# Altium integrated library NSC Interface.IntLib: 1288 symbols (part 36 of 45)
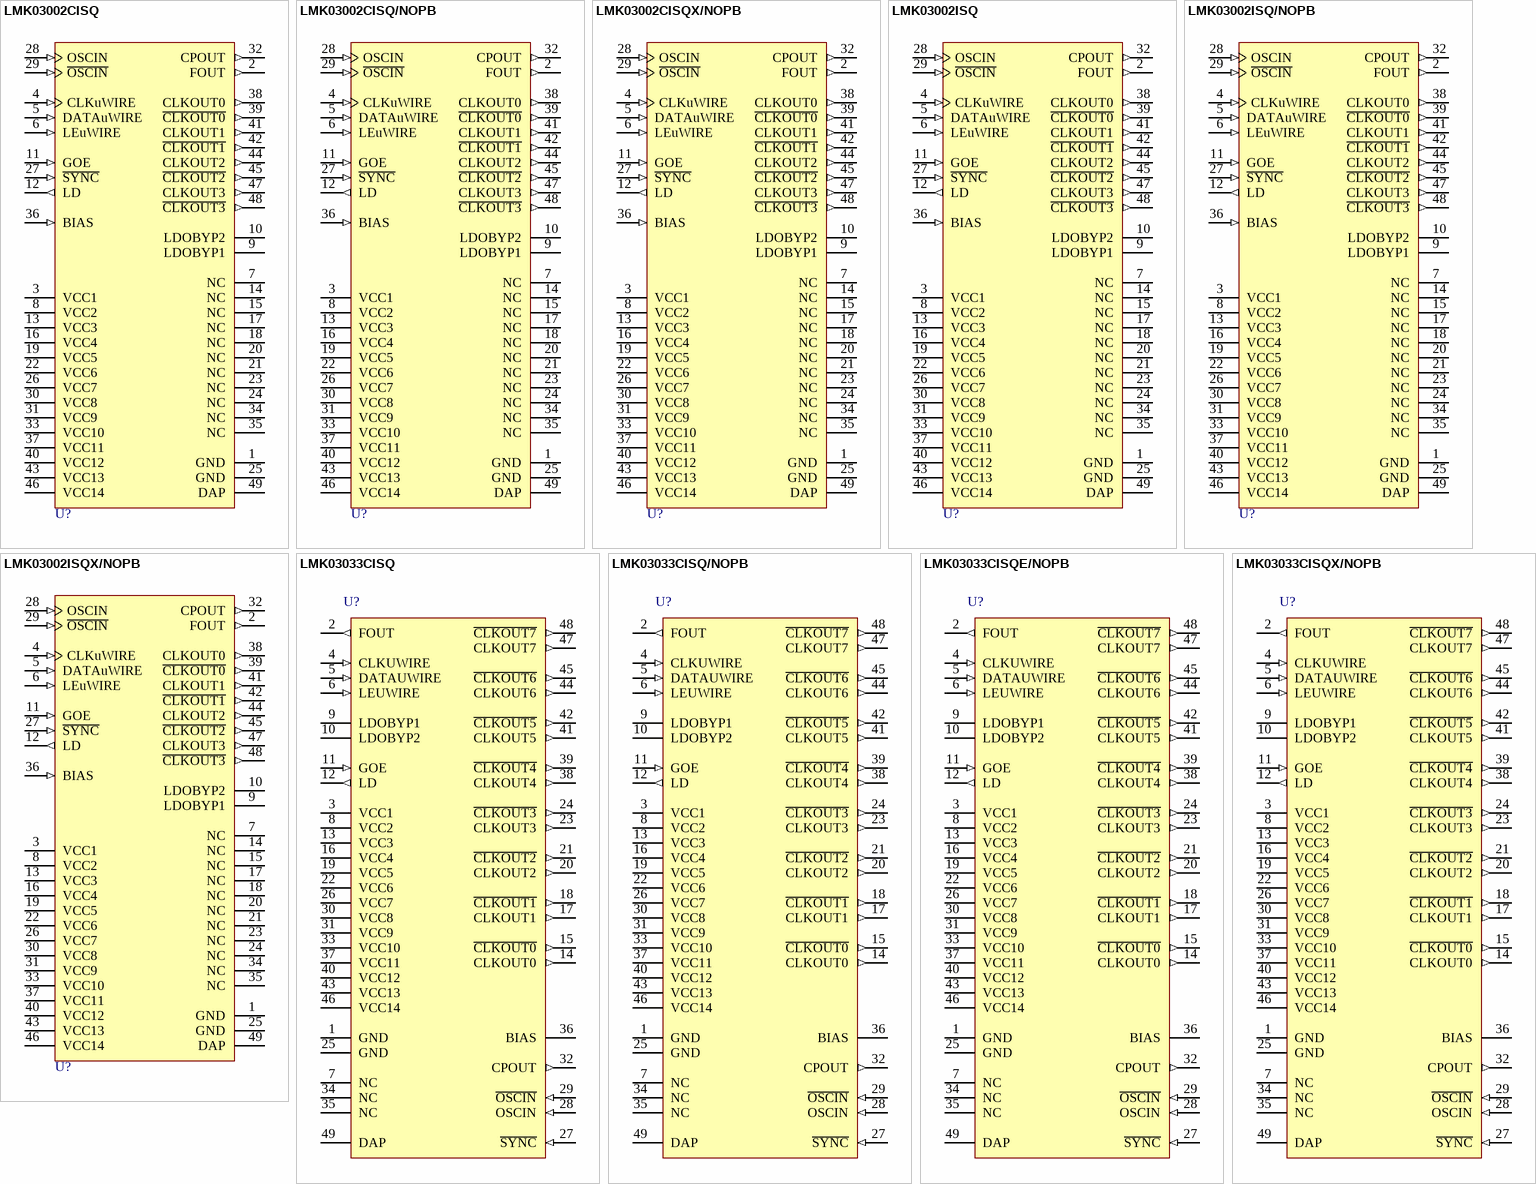
[diagram p147: symbols LMK03002CISQ to LMK03033CISQX/NOPB]

## LMK03002CISQ/NOPB
designator U?
Precision Clock Conditioner with Integrated VCO, 48-pin LLP, Pb-Free; PartNumber: LMK03002CISQ/NOPB; Manufacturer: National Semiconductor; PackageTopMarking: NS*UZXYTTE#*K03002CI; PowerWise: Y; CompType: Interface IC; Published: 1-Mar-2010; DatasheetVersion: Jul-2009; PackageVersion: revB, May-2009; PackageReference: SQA48A; Publisher: Altium Limited; PackageDescription: LLP, Plastic, Quad, 7 x 7 x 0.8mm Body, 48 Lead, 0.5mm Pitch, No Pullback; Supplier 1: Digi-Key; Supplier Part Number 1: LMK03002CISQTR-ND; Supplier 2: Digi-Key; Supplier Part Number 2: LMK03002CISQCT-ND; Supplier 3: Digi-Key; Supplier Part Number 3: LMK03002CISQDKR-ND; RoHS: Y; PinCount: 48; Code_JEDEC: MO-220-WKKD-2; ComponentLink1Description: LMK03002C Datasheet; ComponentLink1URL: http://www.national.com/ds/LM/LMK03002.pdf; ComponentLink2Description: LMK03002C Web Page; ComponentLink2URL: http://www.national.com/pf/LM/LMK03002C.html; ComponentLink3Description: SQA48A Package Page; ComponentLink3URL: http://www.national.com/packaging/folders/sqa48a.html
footprint SQA48A (QFN, 48-Leads, Body 7x7mm, Pitch 0.5mm, NSC Recommended)
pins: 1 GND (power), 2 FOUT (out), 3 VCC1 (power), 4 CLKuWIRE (in), 5 DATAuWIRE (in), 6 LEuWIRE (in), 7 NC, 8 VCC2 (power), 9 LDOBYP1, 10 LDOBYP2, 11 GOE (in), 12 LD (out), 13 VCC3 (power), 14 NC, 15 NC, 16 VCC4 (power), 17 NC, 18 NC, 19 VCC5 (power), 20 NC, 21 NC, 22 VCC6 (power), 23 NC, 24 NC, 25 GND (power), 26 VCC7 (power), 27 ~{SYNC} (in), 28 OSCIN (in), 29 ~{OSCIN} (in), 30 VCC8 (power), 31 VCC9 (power), 32 CPOUT (out), 33 VCC10 (power), 34 NC, 35 NC, 36 BIAS (in), 37 VCC11 (power), 38 CLKOUT0 (out), 39 ~{CLKOUT0} (out), 40 VCC12 (power), 41 CLKOUT1 (out), 42 ~{CLKOUT1} (out), 43 VCC13 (power), 44 CLKOUT2 (out), 45 ~{CLKOUT2} (out), 46 VCC14 (power), 47 CLKOUT3 (out), 48 ~{CLKOUT3} (out), 49 DAP (power)

## LMK03002CISQX/NOPB
designator U?
Precision Clock Conditioner with Integrated VCO, 48-pin LLP, Pb-Free; PartNumber: LMK03002CISQX/NOPB; Manufacturer: National Semiconductor; PackageTopMarking: NS*UZXYTTE#*K03002CI; PowerWise: Y; CompType: Interface IC; Published: 1-Mar-2010; DatasheetVersion: Jul-2009; PackageVersion: revB, May-2009; PackageReference: SQA48A; Publisher: Altium Limited; PackageDescription: LLP, Plastic, Quad, 7 x 7 x 0.8mm Body, 48 Lead, 0.5mm Pitch, No Pullback; Supplier 1: Digi-Key; Supplier Part Number 1: LMK03002CISQX-ND; RoHS: Y; PinCount: 48; Code_JEDEC: MO-220-WKKD-2; ComponentLink1Description: LMK03002C Datasheet; ComponentLink1URL: http://www.national.com/ds/LM/LMK03002.pdf; ComponentLink2Description: LMK03002C Web Page; ComponentLink2URL: http://www.national.com/pf/LM/LMK03002C.html; ComponentLink3Description: SQA48A Package Page; ComponentLink3URL: http://www.national.com/packaging/folders/sqa48a.html
footprint SQA48A (QFN, 48-Leads, Body 7x7mm, Pitch 0.5mm, NSC Recommended)
pins: 1 GND (power), 2 FOUT (out), 3 VCC1 (power), 4 CLKuWIRE (in), 5 DATAuWIRE (in), 6 LEuWIRE (in), 7 NC, 8 VCC2 (power), 9 LDOBYP1, 10 LDOBYP2, 11 GOE (in), 12 LD (out), 13 VCC3 (power), 14 NC, 15 NC, 16 VCC4 (power), 17 NC, 18 NC, 19 VCC5 (power), 20 NC, 21 NC, 22 VCC6 (power), 23 NC, 24 NC, 25 GND (power), 26 VCC7 (power), 27 ~{SYNC} (in), 28 OSCIN (in), 29 ~{OSCIN} (in), 30 VCC8 (power), 31 VCC9 (power), 32 CPOUT (out), 33 VCC10 (power), 34 NC, 35 NC, 36 BIAS (in), 37 VCC11 (power), 38 CLKOUT0 (out), 39 ~{CLKOUT0} (out), 40 VCC12 (power), 41 CLKOUT1 (out), 42 ~{CLKOUT1} (out), 43 VCC13 (power), 44 CLKOUT2 (out), 45 ~{CLKOUT2} (out), 46 VCC14 (power), 47 CLKOUT3 (out), 48 ~{CLKOUT3} (out), 49 DAP (power)

## LMK03002ISQ
designator U?
Precision Clock Conditioner with Integrated VCO, 48-pin LLP; PartNumber: LMK03002ISQ; Manufacturer: National Semiconductor; PackageTopMarking: NS*UZXYTT*K03002 I; PowerWise: Y; CompType: Interface IC; Published: 4-Dec-2008; DatasheetVersion: Jul-2009; PackageVersion: revB, May-2009; PackageReference: SQA48A; Publisher: Altium Limited; PackageDescription: LLP, Plastic, Quad, 7 x 7 x 0.8mm Body, 48 Lead, 0.5mm Pitch, No Pullback; RoHS: Y; PinCount: 48; Code_JEDEC: MO-220-WKKD-2; ComponentLink1Description: LMK03002 Datasheet; ComponentLink1URL: http://www.national.com/ds/LM/LMK03002.pdf; ComponentLink2Description: LMK03002 Web Page; ComponentLink2URL: http://www.national.com/pf/LM/LMK03002.html; ComponentLink3Description: SQA48A Package Page; ComponentLink3URL: http://www.national.com/packaging/folders/sqa48a.html
footprint SQA48A (QFN, 48-Leads, Body 7x7mm, Pitch 0.5mm, NSC Recommended)
pins: 1 GND (power), 2 FOUT (out), 3 VCC1 (power), 4 CLKuWIRE (in), 5 DATAuWIRE (in), 6 LEuWIRE (in), 7 NC, 8 VCC2 (power), 9 LDOBYP1, 10 LDOBYP2, 11 GOE (in), 12 LD (out), 13 VCC3 (power), 14 NC, 15 NC, 16 VCC4 (power), 17 NC, 18 NC, 19 VCC5 (power), 20 NC, 21 NC, 22 VCC6 (power), 23 NC, 24 NC, 25 GND (power), 26 VCC7 (power), 27 ~{SYNC} (in), 28 OSCIN (in), 29 ~{OSCIN} (in), 30 VCC8 (power), 31 VCC9 (power), 32 CPOUT (out), 33 VCC10 (power), 34 NC, 35 NC, 36 BIAS (in), 37 VCC11 (power), 38 CLKOUT0 (out), 39 ~{CLKOUT0} (out), 40 VCC12 (power), 41 CLKOUT1 (out), 42 ~{CLKOUT1} (out), 43 VCC13 (power), 44 CLKOUT2 (out), 45 ~{CLKOUT2} (out), 46 VCC14 (power), 47 CLKOUT3 (out), 48 ~{CLKOUT3} (out), 49 DAP (power)

## LMK03002ISQ/NOPB
designator U?
Precision Clock Conditioner with Integrated VCO, 48-pin LLP, Pb-Free; PartNumber: LMK03002ISQ/NOPB; Manufacturer: National Semiconductor; PackageTopMarking: NS*UZXYTTE#*K03002 I; PowerWise: Y; CompType: Interface IC; Published: 1-Mar-2010; DatasheetVersion: Jul-2009; PackageVersion: revB, May-2009; PackageReference: SQA48A; Publisher: Altium Limited; PackageDescription: LLP, Plastic, Quad, 7 x 7 x 0.8mm Body, 48 Lead, 0.5mm Pitch, No Pullback; Supplier 1: Digi-Key; Supplier Part Number 1: LMK03002ISQTR-ND; Supplier 2: Digi-Key; Supplier Part Number 2: LMK03002ISQCT-ND; Supplier 3: Digi-Key; Supplier Part Number 3: LMK03002ISQDKR-ND; RoHS: Y; PinCount: 48; Code_JEDEC: MO-220-WKKD-2; ComponentLink1Description: LMK03002 Datasheet; ComponentLink1URL: http://www.national.com/ds/LM/LMK03002.pdf; ComponentLink2Description: LMK03002 Web Page; ComponentLink2URL: http://www.national.com/pf/LM/LMK03002.html; ComponentLink3Description: SQA48A Package Page; ComponentLink3URL: http://www.national.com/packaging/folders/sqa48a.html
footprint SQA48A (QFN, 48-Leads, Body 7x7mm, Pitch 0.5mm, NSC Recommended)
pins: 1 GND (power), 2 FOUT (out), 3 VCC1 (power), 4 CLKuWIRE (in), 5 DATAuWIRE (in), 6 LEuWIRE (in), 7 NC, 8 VCC2 (power), 9 LDOBYP1, 10 LDOBYP2, 11 GOE (in), 12 LD (out), 13 VCC3 (power), 14 NC, 15 NC, 16 VCC4 (power), 17 NC, 18 NC, 19 VCC5 (power), 20 NC, 21 NC, 22 VCC6 (power), 23 NC, 24 NC, 25 GND (power), 26 VCC7 (power), 27 ~{SYNC} (in), 28 OSCIN (in), 29 ~{OSCIN} (in), 30 VCC8 (power), 31 VCC9 (power), 32 CPOUT (out), 33 VCC10 (power), 34 NC, 35 NC, 36 BIAS (in), 37 VCC11 (power), 38 CLKOUT0 (out), 39 ~{CLKOUT0} (out), 40 VCC12 (power), 41 CLKOUT1 (out), 42 ~{CLKOUT1} (out), 43 VCC13 (power), 44 CLKOUT2 (out), 45 ~{CLKOUT2} (out), 46 VCC14 (power), 47 CLKOUT3 (out), 48 ~{CLKOUT3} (out), 49 DAP (power)

## LMK03002ISQX/NOPB
designator U?
Precision Clock Conditioner with Integrated VCO, 48-pin LLP, Pb-Free; PartNumber: LMK03002ISQX/NOPB; Manufacturer: National Semiconductor; PackageTopMarking: NS*UZXYTTE#*K03002 I; PowerWise: Y; CompType: Interface IC; Published: 1-Mar-2010; DatasheetVersion: Jul-2009; PackageVersion: revB, May-2009; PackageReference: SQA48A; Publisher: Altium Limited; PackageDescription: LLP, Plastic, Quad, 7 x 7 x 0.8mm Body, 48 Lead, 0.5mm Pitch, No Pullback; Supplier 1: Digi-Key; Supplier Part Number 1: LMK03002ISQX-ND; RoHS: Y; PinCount: 48; Code_JEDEC: MO-220-WKKD-2; ComponentLink1Description: LMK03002 Datasheet; ComponentLink1URL: http://www.national.com/ds/LM/LMK03002.pdf; ComponentLink2Description: LMK03002 Web Page; ComponentLink2URL: http://www.national.com/pf/LM/LMK03002.html; ComponentLink3Description: SQA48A Package Page; ComponentLink3URL: http://www.national.com/packaging/folders/sqa48a.html
footprint SQA48A (QFN, 48-Leads, Body 7x7mm, Pitch 0.5mm, NSC Recommended)
pins: 1 GND (power), 2 FOUT (out), 3 VCC1 (power), 4 CLKuWIRE (in), 5 DATAuWIRE (in), 6 LEuWIRE (in), 7 NC, 8 VCC2 (power), 9 LDOBYP1, 10 LDOBYP2, 11 GOE (in), 12 LD (out), 13 VCC3 (power), 14 NC, 15 NC, 16 VCC4 (power), 17 NC, 18 NC, 19 VCC5 (power), 20 NC, 21 NC, 22 VCC6 (power), 23 NC, 24 NC, 25 GND (power), 26 VCC7 (power), 27 ~{SYNC} (in), 28 OSCIN (in), 29 ~{OSCIN} (in), 30 VCC8 (power), 31 VCC9 (power), 32 CPOUT (out), 33 VCC10 (power), 34 NC, 35 NC, 36 BIAS (in), 37 VCC11 (power), 38 CLKOUT0 (out), 39 ~{CLKOUT0} (out), 40 VCC12 (power), 41 CLKOUT1 (out), 42 ~{CLKOUT1} (out), 43 VCC13 (power), 44 CLKOUT2 (out), 45 ~{CLKOUT2} (out), 46 VCC14 (power), 47 CLKOUT3 (out), 48 ~{CLKOUT3} (out), 49 DAP (power)

## LMK03033CISQ
designator U?
Precision Clock Conditioner with Integrated VCO, 48-pin LLP; PartNumber: LMK03033CISQ; Manufacturer: National Semiconductor; PackageTopMarking: NS*UZXYTT*K03033CI; PowerWise: Y; CompType: Interface IC; Published: 4-Dec-2008; LatestRevisionDate: 1-Mar-2010; LatestRevisionNote: Updated to datasheet version Jul-2009; DatasheetVersion: Jul-2009; PackageVersion: revB, May-2009; PackageReference: SQA48A; Publisher: Altium Limited; PackageDescription: LLP, Plastic, Quad, 7 x 7 x 0.8mm Body, 48 Lead, 0.5mm Pitch, No Pullback; Supplier 1: Farnell; Supplier Part Number 1: 1667424; RoHS: Y; PinCount: 48; Code_JEDEC: MO-220-WKKD-2; ComponentLink1Description: LMK03033C Datasheet; ComponentLink1URL: http://www.national.com/ds/LM/LMK03000.pdf; ComponentLink2Description: LMK03033C Web Page; ComponentLink2URL: http://www.national.com/pf/LM/LMK03033C.html; ComponentLink3Description: SQA48A Package Page; ComponentLink3URL: http://www.national.com/packaging/folders/sqa48a.html
footprint SQA48A (QFN, 48-Leads, Body 7x7mm, Pitch 0.5mm, NSC Recommended)
pins: 1 GND (power), 2 FOUT (out), 3 VCC1 (power), 4 CLKUWIRE (in), 5 DATAUWIRE (in), 6 LEUWIRE (in), 7 NC, 8 VCC2 (power), 9 LDOBYP1, 10 LDOBYP2, 11 GOE (in), 12 LD (out), 13 VCC3 (power), 14 CLKOUT0 (out), 15 ~{CLKOUT0} (out), 16 VCC4 (power), 17 CLKOUT1 (out), 18 ~{CLKOUT1} (out), 19 VCC5 (power), 20 CLKOUT2 (out), 21 ~{CLKOUT2} (out), 22 VCC6 (power), 23 CLKOUT3 (out), 24 ~{CLKOUT3} (out), 25 GND (power), 26 VCC7 (power), 27 ~{SYNC} (in), 28 OSCIN (in), 29 ~{OSCIN} (in), 30 VCC8 (power), 31 VCC9 (power), 32 CPOUT (out), 33 VCC10 (power), 34 NC, 35 NC, 36 BIAS, 37 VCC11 (power), 38 CLKOUT4 (out), 39 ~{CLKOUT4} (out), 40 VCC12 (power), 41 CLKOUT5 (out), 42 ~{CLKOUT5} (out), 43 VCC13 (power), 44 CLKOUT6 (out), 45 ~{CLKOUT6} (out), 46 VCC14 (power), 47 CLKOUT7 (out), 48 ~{CLKOUT7} (out), 49 DAP (power)

## LMK03033CISQ/NOPB
designator U?
Precision Clock Conditioner with Integrated VCO, 48-pin LLP, Pb-Free; PartNumber: LMK03033CISQ/NOPB; Manufacturer: National Semiconductor; PackageTopMarking: NS*UZXYTTE#*K03033CI; PowerWise: Y; CompType: Interface IC; Published: 1-Mar-2010; LatestRevisionDate: 1-Mar-2010; LatestRevisionNote: Updated to datasheet version Jul-2009; DatasheetVersion: Jul-2009; PackageVersion: revB, May-2009; PackageReference: SQA48A; Publisher: Altium Limited; PackageDescription: LLP, Plastic, Quad, 7 x 7 x 0.8mm Body, 48 Lead, 0.5mm Pitch, No Pullback; Supplier 1: Digi-Key; Supplier Part Number 1: LMK03033CISQ-ND; RoHS: Y; PinCount: 48; Code_JEDEC: MO-220-WKKD-2; ComponentLink1Description: LMK03033 Datasheet; ComponentLink1URL: http://www.national.com/ds/LM/LMK03033.pdf; ComponentLink2Description: LMK03033 Web Page; ComponentLink2URL: http://www.national.com/pf/LM/LMK03033.html; ComponentLink3Description: SQA48A Package Page; ComponentLink3URL: http://www.national.com/packaging/folders/sqa48a.html
footprint SQA48A (QFN, 48-Leads, Body 7x7mm, Pitch 0.5mm, NSC Recommended)
pins: 1 GND (power), 2 FOUT (out), 3 VCC1 (power), 4 CLKUWIRE (in), 5 DATAUWIRE (in), 6 LEUWIRE (in), 7 NC, 8 VCC2 (power), 9 LDOBYP1, 10 LDOBYP2, 11 GOE (in), 12 LD (out), 13 VCC3 (power), 14 CLKOUT0 (out), 15 ~{CLKOUT0} (out), 16 VCC4 (power), 17 CLKOUT1 (out), 18 ~{CLKOUT1} (out), 19 VCC5 (power), 20 CLKOUT2 (out), 21 ~{CLKOUT2} (out), 22 VCC6 (power), 23 CLKOUT3 (out), 24 ~{CLKOUT3} (out), 25 GND (power), 26 VCC7 (power), 27 ~{SYNC} (in), 28 OSCIN (in), 29 ~{OSCIN} (in), 30 VCC8 (power), 31 VCC9 (power), 32 CPOUT (out), 33 VCC10 (power), 34 NC, 35 NC, 36 BIAS, 37 VCC11 (power), 38 CLKOUT4 (out), 39 ~{CLKOUT4} (out), 40 VCC12 (power), 41 CLKOUT5 (out), 42 ~{CLKOUT5} (out), 43 VCC13 (power), 44 CLKOUT6 (out), 45 ~{CLKOUT6} (out), 46 VCC14 (power), 47 CLKOUT7 (out), 48 ~{CLKOUT7} (out), 49 DAP (power)

## LMK03033CISQE/NOPB
designator U?
Precision Clock Conditioner with Integrated VCO, 48-pin LLP, Pb-Free; PartNumber: LMK03033CISQE/NOPB; Manufacturer: National Semiconductor; PackageTopMarking: NS*UZXYTTE#*K03033CI; PowerWise: Y; CompType: Interface IC; Published: 1-Mar-2010; LatestRevisionDate: 1-Mar-2010; LatestRevisionNote: Updated to datasheet version Jul-2009; DatasheetVersion: Jul-2009; PackageVersion: revB, May-2009; PackageReference: SQA48A; Publisher: Altium Limited; PackageDescription: LLP, Plastic, Quad, 7 x 7 x 0.8mm Body, 48 Lead, 0.5mm Pitch, No Pullback; Supplier 1: Digi-Key; Supplier Part Number 1: LMK03033CISQETR-ND; Supplier 2: Digi-Key; Supplier Part Number 2: LMK03033CISQECT-ND; Supplier 3: Digi-Key; Supplier Part Number 3: LMK03033CISQEDKR-ND; Supplier 4: Farnell; Supplier Part Number 4: 1685413; RoHS: Y; PinCount: 48; Code_JEDEC: MO-220-WKKD-2; ComponentLink1Description: LMK03033 Datasheet; ComponentLink1URL: http://www.national.com/ds/LM/LMK03033.pdf; ComponentLink2Description: LMK03033 Web Page; ComponentLink2URL: http://www.national.com/pf/LM/LMK03033.html; ComponentLink3Description: SQA48A Package Page; ComponentLink3URL: http://www.national.com/packaging/folders/sqa48a.html
footprint SQA48A (QFN, 48-Leads, Body 7x7mm, Pitch 0.5mm, NSC Recommended)
pins: 1 GND (power), 2 FOUT (out), 3 VCC1 (power), 4 CLKUWIRE (in), 5 DATAUWIRE (in), 6 LEUWIRE (in), 7 NC, 8 VCC2 (power), 9 LDOBYP1, 10 LDOBYP2, 11 GOE (in), 12 LD (out), 13 VCC3 (power), 14 CLKOUT0 (out), 15 ~{CLKOUT0} (out), 16 VCC4 (power), 17 CLKOUT1 (out), 18 ~{CLKOUT1} (out), 19 VCC5 (power), 20 CLKOUT2 (out), 21 ~{CLKOUT2} (out), 22 VCC6 (power), 23 CLKOUT3 (out), 24 ~{CLKOUT3} (out), 25 GND (power), 26 VCC7 (power), 27 ~{SYNC} (in), 28 OSCIN (in), 29 ~{OSCIN} (in), 30 VCC8 (power), 31 VCC9 (power), 32 CPOUT (out), 33 VCC10 (power), 34 NC, 35 NC, 36 BIAS, 37 VCC11 (power), 38 CLKOUT4 (out), 39 ~{CLKOUT4} (out), 40 VCC12 (power), 41 CLKOUT5 (out), 42 ~{CLKOUT5} (out), 43 VCC13 (power), 44 CLKOUT6 (out), 45 ~{CLKOUT6} (out), 46 VCC14 (power), 47 CLKOUT7 (out), 48 ~{CLKOUT7} (out), 49 DAP (power)

## LMK03033CISQX/NOPB
designator U?
Precision Clock Conditioner with Integrated VCO, 48-pin LLP, Pb-Free; PartNumber: LMK03033CISQX/NOPB; Manufacturer: National Semiconductor; PackageTopMarking: NS*UZXYTTE#*K03033CI; PowerWise: Y; CompType: Interface IC; Published: 1-Mar-2010; LatestRevisionDate: 1-Mar-2010; LatestRevisionNote: Updated to datasheet version Jul-2009; DatasheetVersion: Jul-2009; PackageVersion: revB, May-2009; PackageReference: SQA48A; Publisher: Altium Limited; PackageDescription: LLP, Plastic, Quad, 7 x 7 x 0.8mm Body, 48 Lead, 0.5mm Pitch, No Pullback; Supplier 1: Digi-Key; Supplier Part Number 1: LMK03033CISQX-ND; RoHS: Y; PinCount: 48; Code_JEDEC: MO-220-WKKD-2; ComponentLink1Description: LMK03033 Datasheet; ComponentLink1URL: http://www.national.com/ds/LM/LMK03033.pdf; ComponentLink2Description: LMK03033 Web Page; ComponentLink2URL: http://www.national.com/pf/LM/LMK03033.html; ComponentLink3Description: SQA48A Package Page; ComponentLink3URL: http://www.national.com/packaging/folders/sqa48a.html
footprint SQA48A (QFN, 48-Leads, Body 7x7mm, Pitch 0.5mm, NSC Recommended)
pins: 1 GND (power), 2 FOUT (out), 3 VCC1 (power), 4 CLKUWIRE (in), 5 DATAUWIRE (in), 6 LEUWIRE (in), 7 NC, 8 VCC2 (power), 9 LDOBYP1, 10 LDOBYP2, 11 GOE (in), 12 LD (out), 13 VCC3 (power), 14 CLKOUT0 (out), 15 ~{CLKOUT0} (out), 16 VCC4 (power), 17 CLKOUT1 (out), 18 ~{CLKOUT1} (out), 19 VCC5 (power), 20 CLKOUT2 (out), 21 ~{CLKOUT2} (out), 22 VCC6 (power), 23 CLKOUT3 (out), 24 ~{CLKOUT3} (out), 25 GND (power), 26 VCC7 (power), 27 ~{SYNC} (in), 28 OSCIN (in), 29 ~{OSCIN} (in), 30 VCC8 (power), 31 VCC9 (power), 32 CPOUT (out), 33 VCC10 (power), 34 NC, 35 NC, 36 BIAS, 37 VCC11 (power), 38 CLKOUT4 (out), 39 ~{CLKOUT4} (out), 40 VCC12 (power), 41 CLKOUT5 (out), 42 ~{CLKOUT5} (out), 43 VCC13 (power), 44 CLKOUT6 (out), 45 ~{CLKOUT6} (out), 46 VCC14 (power), 47 CLKOUT7 (out), 48 ~{CLKOUT7} (out), 49 DAP (power)

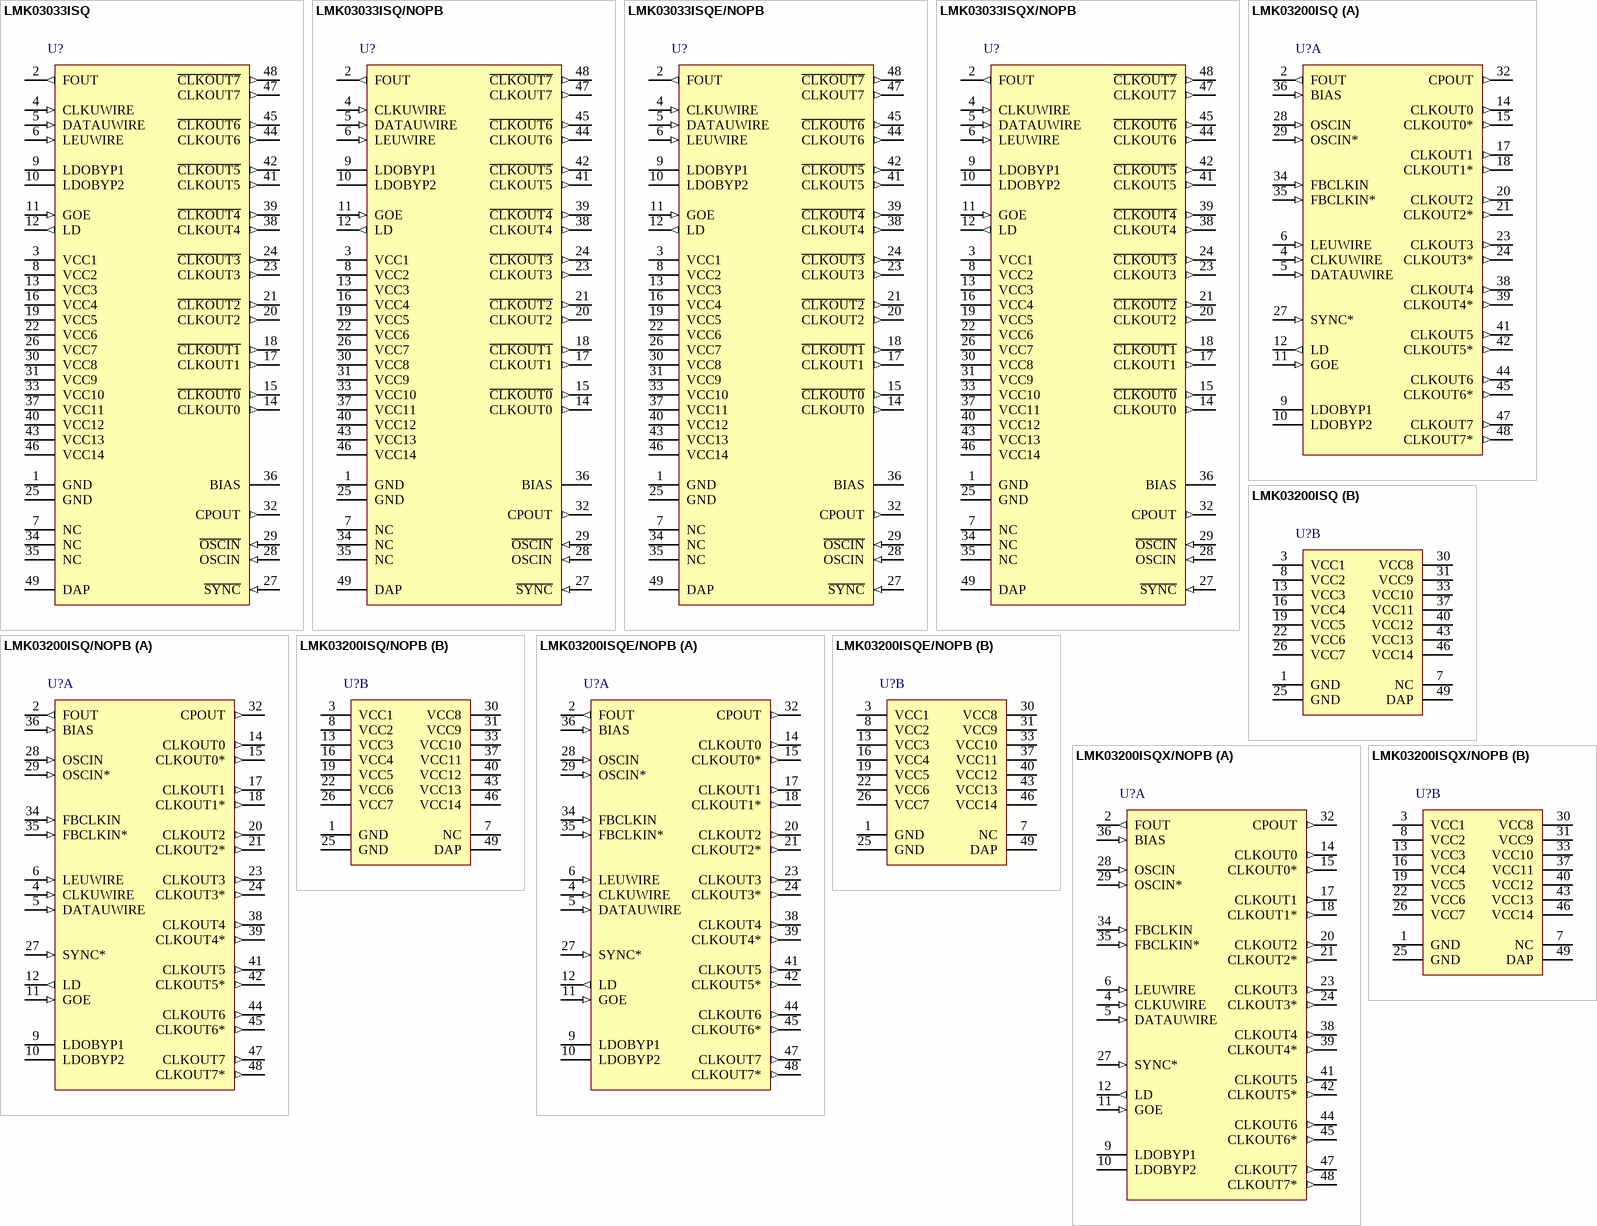
[diagram p89: symbols LMK03033ISQ to LMK03200ISQX/NOPB]

## LMK03033ISQ
designator U?
Precision Clock Conditioner with Integrated VCO, 48-pin LLP; PartNumber: LMK03033ISQ; Manufacturer: National Semiconductor; PackageTopMarking: NS*UZXYTT*K03033 I; PowerWise: Y; CompType: Interface IC; Published: 4-Dec-2008; LatestRevisionDate: 1-Mar-2010; LatestRevisionNote: Updated to datasheet version Jul-2009; DatasheetVersion: Jul-2009; PackageVersion: revB, May-2009; PackageReference: SQA48A; Publisher: Altium Limited; PackageDescription: LLP, Plastic, Quad, 7 x 7 x 0.8mm Body, 48 Lead, 0.5mm Pitch, No Pullback; RoHS: Y; PinCount: 48; Code_JEDEC: MO-220-WKKD-2; ComponentLink1Description: LMK03033 Datasheet; ComponentLink1URL: http://www.national.com/ds/LM/LMK03000.pdf; ComponentLink2Description: LMK03033 Web Page; ComponentLink2URL: http://www.national.com/pf/LM/LMK03033.html; ComponentLink3Description: SQA48A Package Page; ComponentLink3URL: http://www.national.com/packaging/folders/sqa48a.html
footprint SQA48A (QFN, 48-Leads, Body 7x7mm, Pitch 0.5mm, NSC Recommended)
pins: 1 GND (power), 2 FOUT (out), 3 VCC1 (power), 4 CLKUWIRE (in), 5 DATAUWIRE (in), 6 LEUWIRE (in), 7 NC, 8 VCC2 (power), 9 LDOBYP1, 10 LDOBYP2, 11 GOE (in), 12 LD (out), 13 VCC3 (power), 14 CLKOUT0 (out), 15 ~{CLKOUT0} (out), 16 VCC4 (power), 17 CLKOUT1 (out), 18 ~{CLKOUT1} (out), 19 VCC5 (power), 20 CLKOUT2 (out), 21 ~{CLKOUT2} (out), 22 VCC6 (power), 23 CLKOUT3 (out), 24 ~{CLKOUT3} (out), 25 GND (power), 26 VCC7 (power), 27 ~{SYNC} (in), 28 OSCIN (in), 29 ~{OSCIN} (in), 30 VCC8 (power), 31 VCC9 (power), 32 CPOUT (out), 33 VCC10 (power), 34 NC, 35 NC, 36 BIAS, 37 VCC11 (power), 38 CLKOUT4 (out), 39 ~{CLKOUT4} (out), 40 VCC12 (power), 41 CLKOUT5 (out), 42 ~{CLKOUT5} (out), 43 VCC13 (power), 44 CLKOUT6 (out), 45 ~{CLKOUT6} (out), 46 VCC14 (power), 47 CLKOUT7 (out), 48 ~{CLKOUT7} (out), 49 DAP (power)

## LMK03033ISQ/NOPB
designator U?
Precision Clock Conditioner with Integrated VCO, 48-pin LLP, Pb-Free; PartNumber: LMK03033ISQ/NOPB; Manufacturer: National Semiconductor; PackageTopMarking: NS*UZXYTTE#*K03033 I; PowerWise: Y; CompType: Interface IC; Published: 1-Mar-2010; LatestRevisionDate: 1-Mar-2010; LatestRevisionNote: Updated to datasheet version Jul-2009; DatasheetVersion: Jul-2009; PackageVersion: revB, May-2009; PackageReference: SQA48A; Publisher: Altium Limited; PackageDescription: LLP, Plastic, Quad, 7 x 7 x 0.8mm Body, 48 Lead, 0.5mm Pitch, No Pullback; Supplier 1: Digi-Key; Supplier Part Number 1: LMK03033ISQ-ND; RoHS: Y; PinCount: 48; Code_JEDEC: MO-220-WKKD-2; ComponentLink1Description: LMK03033 Datasheet; ComponentLink1URL: http://www.national.com/ds/LM/LMK03033.pdf; ComponentLink2Description: LMK03033 Web Page; ComponentLink2URL: http://www.national.com/pf/LM/LMK03033.html; ComponentLink3Description: SQA48A Package Page; ComponentLink3URL: http://www.national.com/packaging/folders/sqa48a.html
footprint SQA48A (QFN, 48-Leads, Body 7x7mm, Pitch 0.5mm, NSC Recommended)
pins: 1 GND (power), 2 FOUT (out), 3 VCC1 (power), 4 CLKUWIRE (in), 5 DATAUWIRE (in), 6 LEUWIRE (in), 7 NC, 8 VCC2 (power), 9 LDOBYP1, 10 LDOBYP2, 11 GOE (in), 12 LD (out), 13 VCC3 (power), 14 CLKOUT0 (out), 15 ~{CLKOUT0} (out), 16 VCC4 (power), 17 CLKOUT1 (out), 18 ~{CLKOUT1} (out), 19 VCC5 (power), 20 CLKOUT2 (out), 21 ~{CLKOUT2} (out), 22 VCC6 (power), 23 CLKOUT3 (out), 24 ~{CLKOUT3} (out), 25 GND (power), 26 VCC7 (power), 27 ~{SYNC} (in), 28 OSCIN (in), 29 ~{OSCIN} (in), 30 VCC8 (power), 31 VCC9 (power), 32 CPOUT (out), 33 VCC10 (power), 34 NC, 35 NC, 36 BIAS, 37 VCC11 (power), 38 CLKOUT4 (out), 39 ~{CLKOUT4} (out), 40 VCC12 (power), 41 CLKOUT5 (out), 42 ~{CLKOUT5} (out), 43 VCC13 (power), 44 CLKOUT6 (out), 45 ~{CLKOUT6} (out), 46 VCC14 (power), 47 CLKOUT7 (out), 48 ~{CLKOUT7} (out), 49 DAP (power)

## LMK03033ISQE/NOPB
designator U?
Precision Clock Conditioner with Integrated VCO, 48-pin LLP, Pb-Free; PartNumber: LMK03033ISQE/NOPB; Manufacturer: National Semiconductor; PackageTopMarking: NS*UZXYTTE#*K03033 I; PowerWise: Y; CompType: Interface IC; Published: 1-Mar-2010; LatestRevisionDate: 1-Mar-2010; LatestRevisionNote: Updated to datasheet version Jul-2009; DatasheetVersion: Jul-2009; PackageVersion: revB, May-2009; PackageReference: SQA48A; Publisher: Altium Limited; PackageDescription: LLP, Plastic, Quad, 7 x 7 x 0.8mm Body, 48 Lead, 0.5mm Pitch, No Pullback; Supplier 1: Digi-Key; Supplier Part Number 1: LMK03033ISQETR-ND; Supplier 2: Digi-Key; Supplier Part Number 2: LMK03033ISQECT-ND; Supplier 3: Digi-Key; Supplier Part Number 3: LMK03033ISQEDKR-ND; Supplier 4: Farnell; Supplier Part Number 4: 1685414; RoHS: Y; PinCount: 48; Code_JEDEC: MO-220-WKKD-2; ComponentLink1Description: LMK03033 Datasheet; ComponentLink1URL: http://www.national.com/ds/LM/LMK03033.pdf; ComponentLink2Description: LMK03033 Web Page; ComponentLink2URL: http://www.national.com/pf/LM/LMK03033.html; ComponentLink3Description: SQA48A Package Page; ComponentLink3URL: http://www.national.com/packaging/folders/sqa48a.html
footprint SQA48A (QFN, 48-Leads, Body 7x7mm, Pitch 0.5mm, NSC Recommended)
pins: 1 GND (power), 2 FOUT (out), 3 VCC1 (power), 4 CLKUWIRE (in), 5 DATAUWIRE (in), 6 LEUWIRE (in), 7 NC, 8 VCC2 (power), 9 LDOBYP1, 10 LDOBYP2, 11 GOE (in), 12 LD (out), 13 VCC3 (power), 14 CLKOUT0 (out), 15 ~{CLKOUT0} (out), 16 VCC4 (power), 17 CLKOUT1 (out), 18 ~{CLKOUT1} (out), 19 VCC5 (power), 20 CLKOUT2 (out), 21 ~{CLKOUT2} (out), 22 VCC6 (power), 23 CLKOUT3 (out), 24 ~{CLKOUT3} (out), 25 GND (power), 26 VCC7 (power), 27 ~{SYNC} (in), 28 OSCIN (in), 29 ~{OSCIN} (in), 30 VCC8 (power), 31 VCC9 (power), 32 CPOUT (out), 33 VCC10 (power), 34 NC, 35 NC, 36 BIAS, 37 VCC11 (power), 38 CLKOUT4 (out), 39 ~{CLKOUT4} (out), 40 VCC12 (power), 41 CLKOUT5 (out), 42 ~{CLKOUT5} (out), 43 VCC13 (power), 44 CLKOUT6 (out), 45 ~{CLKOUT6} (out), 46 VCC14 (power), 47 CLKOUT7 (out), 48 ~{CLKOUT7} (out), 49 DAP (power)

## LMK03033ISQX/NOPB
designator U?
Precision Clock Conditioner with Integrated VCO, 48-pin LLP, Pb-Free; PartNumber: LMK03033ISQX/NOPB; Manufacturer: National Semiconductor; PackageTopMarking: NS*UZXYTTE#*K03033 I; PowerWise: Y; CompType: Interface IC; Published: 1-Mar-2010; LatestRevisionDate: 1-Mar-2010; LatestRevisionNote: Updated to datasheet version Jul-2009; DatasheetVersion: Jul-2009; PackageVersion: revB, May-2009; PackageReference: SQA48A; Publisher: Altium Limited; PackageDescription: LLP, Plastic, Quad, 7 x 7 x 0.8mm Body, 48 Lead, 0.5mm Pitch, No Pullback; Supplier 1: Digi-Key; Supplier Part Number 1: LMK03033ISQX-ND; RoHS: Y; PinCount: 48; Code_JEDEC: MO-220-WKKD-2; ComponentLink1Description: LMK03033 Datasheet; ComponentLink1URL: http://www.national.com/ds/LM/LMK03033.pdf; ComponentLink2Description: LMK03033 Web Page; ComponentLink2URL: http://www.national.com/pf/LM/LMK03033.html; ComponentLink3Description: SQA48A Package Page; ComponentLink3URL: http://www.national.com/packaging/folders/sqa48a.html
footprint SQA48A (QFN, 48-Leads, Body 7x7mm, Pitch 0.5mm, NSC Recommended)
pins: 1 GND (power), 2 FOUT (out), 3 VCC1 (power), 4 CLKUWIRE (in), 5 DATAUWIRE (in), 6 LEUWIRE (in), 7 NC, 8 VCC2 (power), 9 LDOBYP1, 10 LDOBYP2, 11 GOE (in), 12 LD (out), 13 VCC3 (power), 14 CLKOUT0 (out), 15 ~{CLKOUT0} (out), 16 VCC4 (power), 17 CLKOUT1 (out), 18 ~{CLKOUT1} (out), 19 VCC5 (power), 20 CLKOUT2 (out), 21 ~{CLKOUT2} (out), 22 VCC6 (power), 23 CLKOUT3 (out), 24 ~{CLKOUT3} (out), 25 GND (power), 26 VCC7 (power), 27 ~{SYNC} (in), 28 OSCIN (in), 29 ~{OSCIN} (in), 30 VCC8 (power), 31 VCC9 (power), 32 CPOUT (out), 33 VCC10 (power), 34 NC, 35 NC, 36 BIAS, 37 VCC11 (power), 38 CLKOUT4 (out), 39 ~{CLKOUT4} (out), 40 VCC12 (power), 41 CLKOUT5 (out), 42 ~{CLKOUT5} (out), 43 VCC13 (power), 44 CLKOUT6 (out), 45 ~{CLKOUT6} (out), 46 VCC14 (power), 47 CLKOUT7 (out), 48 ~{CLKOUT7} (out), 49 DAP (power)

## LMK03200ISQ
designator U?
Precision 0-Delay Clock Conditioner with Integrated VCO, 48-pin LLP; PartNumber: LMK03200ISQ; Manufacturer: National Semiconductor; PackageTopMarking: NS*UZXYTT*K03200 I; PowerWise: N; CompType: Interface IC; Published: 9-Oct-2009; DatasheetVersion: Aug-2009; PackageVersion: revB, May-2009; PackageReference: SQA48A; Publisher: Altium Limited; PackageDescription: LLP, Plastic, Quad, 7 x 7 x 0.8mm Body, 48 Lead, 0.5mm Pitch, No Pullback; RoHS: Y; PinCount: 48; Code_JEDEC: MO-220-WKKD-2; ComponentLink1Description: LMK03200 Datasheet; ComponentLink1URL: http://www.national.com/ds/LM/LMK03200.pdf; ComponentLink2Description: LMK03200 Web Page; ComponentLink2URL: http://www.national.com/pf/LM/LMK03200.html; ComponentLink3Description: SQA48A Package Page; ComponentLink3URL: http://www.national.com/packaging/folders/sqa48a.html
footprint SQA48A (QFN, 48-Leads, Body 7x7mm, Pitch 0.5mm, NSC Recommended)
part A pins: 2 FOUT (out), 4 CLKUWIRE (in), 5 DATAUWIRE (in), 6 LEUWIRE (in), 9 LDOBYP1, 10 LDOBYP2, 11 GOE (in), 12 LD (out), 14 CLKOUT0 (out), 15 CLKOUT0* (out), 17 CLKOUT1 (out), 18 CLKOUT1* (out), 20 CLKOUT2 (out), 21 CLKOUT2* (out), 23 CLKOUT3 (out), 24 CLKOUT3* (out), 27 SYNC* (in), 28 OSCIN (in), 29 OSCIN* (in), 32 CPOUT (out), 34 FBCLKIN (in), 35 FBCLKIN* (in), 36 BIAS (in), 38 CLKOUT4 (out), 39 CLKOUT4* (out), 41 CLKOUT5 (out), 42 CLKOUT5* (out), 44 CLKOUT6 (out), 45 CLKOUT6* (out), 47 CLKOUT7 (out), 48 CLKOUT7* (out)
part B pins: 1 GND (power), 3 VCC1 (power), 7 NC (power), 8 VCC2 (power), 13 VCC3 (power), 16 VCC4 (power), 19 VCC5 (power), 22 VCC6 (power), 25 GND (power), 26 VCC7 (power), 30 VCC8 (power), 31 VCC9 (power), 33 VCC10 (power), 37 VCC11 (power), 40 VCC12 (power), 43 VCC13 (power), 46 VCC14 (power), 49 DAP (power)

## LMK03200ISQ/NOPB
designator U?
Precision 0-Delay Clock Conditioner with Integrated VCO, 48-pin LLP, Pb-Free; PartNumber: LMK03200ISQ/NOPB; Manufacturer: National Semiconductor; PackageTopMarking: NS*UZXYTTE#*K03200 I; PowerWise: N; CompType: Interface IC; Published: 1-Mar-2010; DatasheetVersion: Aug-2009; PackageVersion: revB, May-2009; PackageReference: SQA48A; Publisher: Altium Limited; PackageDescription: LLP, Plastic, Quad, 7 x 7 x 0.8mm Body, 48 Lead, 0.5mm Pitch, No Pullback; Supplier 1: Digi-Key; Supplier Part Number 1: LMK03200ISQ-ND; RoHS: Y; PinCount: 48; Code_JEDEC: MO-220-WKKD-2; ComponentLink1Description: LMK03200 Datasheet; ComponentLink1URL: http://www.national.com/ds/LM/LMK03200.pdf; ComponentLink2Description: LMK03200 Web Page; ComponentLink2URL: http://www.national.com/pf/LM/LMK03200.html; ComponentLink3Description: SQA48A Package Page; ComponentLink3URL: http://www.national.com/packaging/folders/sqa48a.html
footprint SQA48A (QFN, 48-Leads, Body 7x7mm, Pitch 0.5mm, NSC Recommended)
part A pins: 2 FOUT (out), 4 CLKUWIRE (in), 5 DATAUWIRE (in), 6 LEUWIRE (in), 9 LDOBYP1, 10 LDOBYP2, 11 GOE (in), 12 LD (out), 14 CLKOUT0 (out), 15 CLKOUT0* (out), 17 CLKOUT1 (out), 18 CLKOUT1* (out), 20 CLKOUT2 (out), 21 CLKOUT2* (out), 23 CLKOUT3 (out), 24 CLKOUT3* (out), 27 SYNC* (in), 28 OSCIN (in), 29 OSCIN* (in), 32 CPOUT (out), 34 FBCLKIN (in), 35 FBCLKIN* (in), 36 BIAS (in), 38 CLKOUT4 (out), 39 CLKOUT4* (out), 41 CLKOUT5 (out), 42 CLKOUT5* (out), 44 CLKOUT6 (out), 45 CLKOUT6* (out), 47 CLKOUT7 (out), 48 CLKOUT7* (out)
part B pins: 1 GND (power), 3 VCC1 (power), 7 NC (power), 8 VCC2 (power), 13 VCC3 (power), 16 VCC4 (power), 19 VCC5 (power), 22 VCC6 (power), 25 GND (power), 26 VCC7 (power), 30 VCC8 (power), 31 VCC9 (power), 33 VCC10 (power), 37 VCC11 (power), 40 VCC12 (power), 43 VCC13 (power), 46 VCC14 (power), 49 DAP (power)

## LMK03200ISQE/NOPB
designator U?
Precision 0-Delay Clock Conditioner with Integrated VCO, 48-pin LLP, Pb-Free; PartNumber: LMK03200ISQE/NOPB; Manufacturer: National Semiconductor; PackageTopMarking: NS*UZXYTTE#*K03200 I; PowerWise: N; CompType: Interface IC; Published: 1-Mar-2010; DatasheetVersion: Aug-2009; PackageVersion: revB, May-2009; PackageReference: SQA48A; Publisher: Altium Limited; PackageDescription: LLP, Plastic, Quad, 7 x 7 x 0.8mm Body, 48 Lead, 0.5mm Pitch, No Pullback; Supplier 1: Digi-Key; Supplier Part Number 1: LMK03200ISQETR-ND; Supplier 2: Digi-Key; Supplier Part Number 2: LMK03200ISQECT-ND; Supplier 3: Digi-Key; Supplier Part Number 3: LMK03200ISQEDKR-ND; RoHS: Y; PinCount: 48; Code_JEDEC: MO-220-WKKD-2; ComponentLink1Description: LMK03200 Datasheet; ComponentLink1URL: http://www.national.com/ds/LM/LMK03200.pdf; ComponentLink2Description: LMK03200 Web Page; ComponentLink2URL: http://www.national.com/pf/LM/LMK03200.html; ComponentLink3Description: SQA48A Package Page; ComponentLink3URL: http://www.national.com/packaging/folders/sqa48a.html
footprint SQA48A (QFN, 48-Leads, Body 7x7mm, Pitch 0.5mm, NSC Recommended)
part A pins: 2 FOUT (out), 4 CLKUWIRE (in), 5 DATAUWIRE (in), 6 LEUWIRE (in), 9 LDOBYP1, 10 LDOBYP2, 11 GOE (in), 12 LD (out), 14 CLKOUT0 (out), 15 CLKOUT0* (out), 17 CLKOUT1 (out), 18 CLKOUT1* (out), 20 CLKOUT2 (out), 21 CLKOUT2* (out), 23 CLKOUT3 (out), 24 CLKOUT3* (out), 27 SYNC* (in), 28 OSCIN (in), 29 OSCIN* (in), 32 CPOUT (out), 34 FBCLKIN (in), 35 FBCLKIN* (in), 36 BIAS (in), 38 CLKOUT4 (out), 39 CLKOUT4* (out), 41 CLKOUT5 (out), 42 CLKOUT5* (out), 44 CLKOUT6 (out), 45 CLKOUT6* (out), 47 CLKOUT7 (out), 48 CLKOUT7* (out)
part B pins: 1 GND (power), 3 VCC1 (power), 7 NC (power), 8 VCC2 (power), 13 VCC3 (power), 16 VCC4 (power), 19 VCC5 (power), 22 VCC6 (power), 25 GND (power), 26 VCC7 (power), 30 VCC8 (power), 31 VCC9 (power), 33 VCC10 (power), 37 VCC11 (power), 40 VCC12 (power), 43 VCC13 (power), 46 VCC14 (power), 49 DAP (power)

## LMK03200ISQX/NOPB
designator U?
Precision 0-Delay Clock Conditioner with Integrated VCO, 48-pin LLP, Pb-Free; PartNumber: LMK03200ISQX/NOPB; Manufacturer: National Semiconductor; PackageTopMarking: NS*UZXYTTE#*K03200 I; PowerWise: N; CompType: Interface IC; Published: 1-Mar-2010; DatasheetVersion: Aug-2009; PackageVersion: revB, May-2009; PackageReference: SQA48A; Publisher: Altium Limited; PackageDescription: LLP, Plastic, Quad, 7 x 7 x 0.8mm Body, 48 Lead, 0.5mm Pitch, No Pullback; Supplier 1: Digi-Key; Supplier Part Number 1: LMK03200ISQX-ND; RoHS: Y; PinCount: 48; Code_JEDEC: MO-220-WKKD-2; ComponentLink1Description: LMK03200 Datasheet; ComponentLink1URL: http://www.national.com/ds/LM/LMK03200.pdf; ComponentLink2Description: LMK03200 Web Page; ComponentLink2URL: http://www.national.com/pf/LM/LMK03200.html; ComponentLink3Description: SQA48A Package Page; ComponentLink3URL: http://www.national.com/packaging/folders/sqa48a.html
footprint SQA48A (QFN, 48-Leads, Body 7x7mm, Pitch 0.5mm, NSC Recommended)
part A pins: 2 FOUT (out), 4 CLKUWIRE (in), 5 DATAUWIRE (in), 6 LEUWIRE (in), 9 LDOBYP1, 10 LDOBYP2, 11 GOE (in), 12 LD (out), 14 CLKOUT0 (out), 15 CLKOUT0* (out), 17 CLKOUT1 (out), 18 CLKOUT1* (out), 20 CLKOUT2 (out), 21 CLKOUT2* (out), 23 CLKOUT3 (out), 24 CLKOUT3* (out), 27 SYNC* (in), 28 OSCIN (in), 29 OSCIN* (in), 32 CPOUT (out), 34 FBCLKIN (in), 35 FBCLKIN* (in), 36 BIAS (in), 38 CLKOUT4 (out), 39 CLKOUT4* (out), 41 CLKOUT5 (out), 42 CLKOUT5* (out), 44 CLKOUT6 (out), 45 CLKOUT6* (out), 47 CLKOUT7 (out), 48 CLKOUT7* (out)
part B pins: 1 GND (power), 3 VCC1 (power), 7 NC (power), 8 VCC2 (power), 13 VCC3 (power), 16 VCC4 (power), 19 VCC5 (power), 22 VCC6 (power), 25 GND (power), 26 VCC7 (power), 30 VCC8 (power), 31 VCC9 (power), 33 VCC10 (power), 37 VCC11 (power), 40 VCC12 (power), 43 VCC13 (power), 46 VCC14 (power), 49 DAP (power)

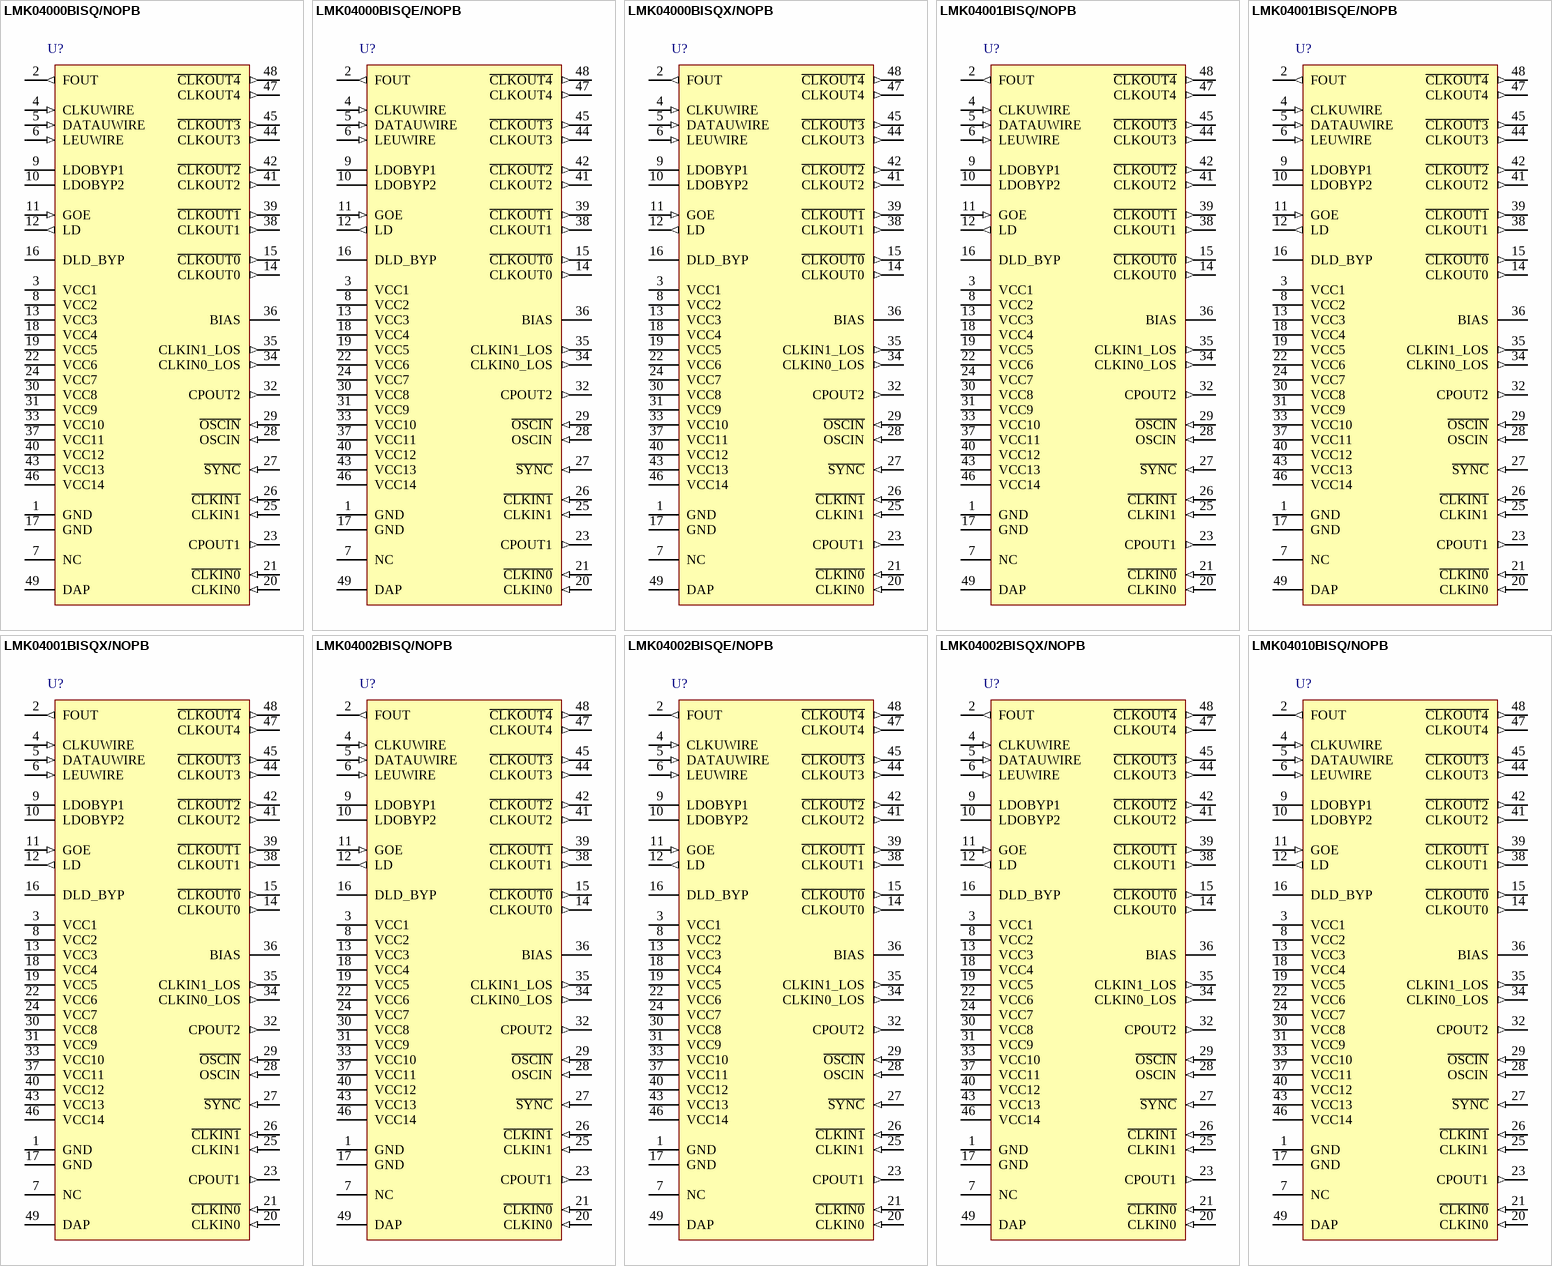
[diagram p90: symbols LMK04000BISQ/NOPB to LMK04010BISQ/NOPB]

## LMK04000BISQ/NOPB
designator U?
Precision Clock Conditioners Low-Noise Clock Jitter Cleaner with Cascaded PLLs, 48-pin LLP, Pb-Free; PartNumber: LMK04000BISQ/NOPB; Manufacturer: National Semiconductor; PackageTopMarking: NS*UZXYTTE#*K04000BI; PowerWise: Y; CompType: Interface IC; Published: 1-Mar-2010; DatasheetVersion: Jul-2009; PackageVersion: revB, May-2009; PackageReference: SQA48A; Publisher: Altium Limited; PackageDescription: LLP, Plastic, Quad, 7 x 7 x 0.8mm Body, 48 Lead, 0.5mm Pitch, No Pullback; Supplier 1: Digi-Key; Supplier Part Number 1: LMK04000BISQ-ND; RoHS: Y; PinCount: 48; Code_JEDEC: MO-220-WKKD-2; ComponentLink1Description: LMK04000 Datasheet; ComponentLink1URL: http://www.national.com/ds/LM/LMK04000.pdf; ComponentLink2Description: LMK04000 Web Page; ComponentLink2URL: http://www.national.com/pf/LM/LMK04000.html; ComponentLink3Description: SQA48A Package Page; ComponentLink3URL: http://www.national.com/packaging/folders/sqa48a.html
footprint SQA48A (QFN, 48-Leads, Body 7x7mm, Pitch 0.5mm, NSC Recommended)
pins: 1 GND (power), 2 FOUT (out), 3 VCC1 (power), 4 CLKUWIRE (in), 5 DATAUWIRE (in), 6 LEUWIRE (in), 7 NC, 8 VCC2 (power), 9 LDOBYP1, 10 LDOBYP2, 11 GOE (in), 12 LD (out), 13 VCC3 (power), 14 CLKOUT0 (out), 15 ~{CLKOUT0} (out), 16 DLD_BYP (power), 17 GND (power), 18 VCC4 (power), 19 VCC5 (power), 20 CLKIN0 (in), 21 ~{CLKIN0} (in), 22 VCC6 (power), 23 CPOUT1 (out), 24 VCC7 (power), 25 CLKIN1 (in), 26 ~{CLKIN1} (in), 27 ~{SYNC} (in), 28 OSCIN (in), 29 ~{OSCIN} (in), 30 VCC8 (power), 31 VCC9 (power), 32 CPOUT2 (out), 33 VCC10 (power), 34 CLKIN0_LOS (out), 35 CLKIN1_LOS (out), 36 BIAS, 37 VCC11 (power), 38 CLKOUT1 (out), 39 ~{CLKOUT1} (out), 40 VCC12 (power), 41 CLKOUT2 (out), 42 ~{CLKOUT2} (out), 43 VCC13 (power), 44 CLKOUT3 (out), 45 ~{CLKOUT3} (out), 46 VCC14 (power), 47 CLKOUT4 (out), 48 ~{CLKOUT4} (out), 49 DAP (power)

## LMK04000BISQE/NOPB
designator U?
Precision Clock Conditioners Low-Noise Clock Jitter Cleaner with Cascaded PLLs, 48-pin LLP, Pb-Free; PartNumber: LMK04000BISQE/NOPB; Manufacturer: National Semiconductor; PackageTopMarking: NS*UZXYTTE#*K04000BI; PowerWise: Y; CompType: Interface IC; Published: 1-Mar-2010; DatasheetVersion: Jul-2009; PackageVersion: revB, May-2009; PackageReference: SQA48A; Publisher: Altium Limited; PackageDescription: LLP, Plastic, Quad, 7 x 7 x 0.8mm Body, 48 Lead, 0.5mm Pitch, No Pullback; Supplier 1: Digi-Key; Supplier Part Number 1: LMK04000BISQETR-ND; Supplier 2: Digi-Key; Supplier Part Number 2: LMK04000BISQECT-ND; Supplier 3: Digi-Key; Supplier Part Number 3: LMK04000BISQEDKR-ND; Supplier 4: Farnell; Supplier Part Number 4: 1791113; RoHS: Y; PinCount: 48; Code_JEDEC: MO-220-WKKD-2; ComponentLink1Description: LMK04000 Datasheet; ComponentLink1URL: http://www.national.com/ds/LM/LMK04000.pdf; ComponentLink2Description: LMK04000 Web Page; ComponentLink2URL: http://www.national.com/pf/LM/LMK04000.html; ComponentLink3Description: SQA48A Package Page; ComponentLink3URL: http://www.national.com/packaging/folders/sqa48a.html
footprint SQA48A (QFN, 48-Leads, Body 7x7mm, Pitch 0.5mm, NSC Recommended)
pins: 1 GND (power), 2 FOUT (out), 3 VCC1 (power), 4 CLKUWIRE (in), 5 DATAUWIRE (in), 6 LEUWIRE (in), 7 NC, 8 VCC2 (power), 9 LDOBYP1, 10 LDOBYP2, 11 GOE (in), 12 LD (out), 13 VCC3 (power), 14 CLKOUT0 (out), 15 ~{CLKOUT0} (out), 16 DLD_BYP (power), 17 GND (power), 18 VCC4 (power), 19 VCC5 (power), 20 CLKIN0 (in), 21 ~{CLKIN0} (in), 22 VCC6 (power), 23 CPOUT1 (out), 24 VCC7 (power), 25 CLKIN1 (in), 26 ~{CLKIN1} (in), 27 ~{SYNC} (in), 28 OSCIN (in), 29 ~{OSCIN} (in), 30 VCC8 (power), 31 VCC9 (power), 32 CPOUT2 (out), 33 VCC10 (power), 34 CLKIN0_LOS (out), 35 CLKIN1_LOS (out), 36 BIAS, 37 VCC11 (power), 38 CLKOUT1 (out), 39 ~{CLKOUT1} (out), 40 VCC12 (power), 41 CLKOUT2 (out), 42 ~{CLKOUT2} (out), 43 VCC13 (power), 44 CLKOUT3 (out), 45 ~{CLKOUT3} (out), 46 VCC14 (power), 47 CLKOUT4 (out), 48 ~{CLKOUT4} (out), 49 DAP (power)

## LMK04000BISQX/NOPB
designator U?
Precision Clock Conditioners Low-Noise Clock Jitter Cleaner with Cascaded PLLs, 48-pin LLP, Pb-Free; PartNumber: LMK04000BISQX/NOPB; Manufacturer: National Semiconductor; PackageTopMarking: NS*UZXYTTE#*K04000BI; PowerWise: Y; CompType: Interface IC; Published: 1-Mar-2010; DatasheetVersion: Jul-2009; PackageVersion: revB, May-2009; PackageReference: SQA48A; Publisher: Altium Limited; PackageDescription: LLP, Plastic, Quad, 7 x 7 x 0.8mm Body, 48 Lead, 0.5mm Pitch, No Pullback; Supplier 1: Digi-Key; Supplier Part Number 1: LMK04000BISQX-ND; RoHS: Y; PinCount: 48; Code_JEDEC: MO-220-WKKD-2; ComponentLink1Description: LMK04000 Datasheet; ComponentLink1URL: http://www.national.com/ds/LM/LMK04000.pdf; ComponentLink2Description: LMK04000 Web Page; ComponentLink2URL: http://www.national.com/pf/LM/LMK04000.html; ComponentLink3Description: SQA48A Package Page; ComponentLink3URL: http://www.national.com/packaging/folders/sqa48a.html
footprint SQA48A (QFN, 48-Leads, Body 7x7mm, Pitch 0.5mm, NSC Recommended)
pins: 1 GND (power), 2 FOUT (out), 3 VCC1 (power), 4 CLKUWIRE (in), 5 DATAUWIRE (in), 6 LEUWIRE (in), 7 NC, 8 VCC2 (power), 9 LDOBYP1, 10 LDOBYP2, 11 GOE (in), 12 LD (out), 13 VCC3 (power), 14 CLKOUT0 (out), 15 ~{CLKOUT0} (out), 16 DLD_BYP (power), 17 GND (power), 18 VCC4 (power), 19 VCC5 (power), 20 CLKIN0 (in), 21 ~{CLKIN0} (in), 22 VCC6 (power), 23 CPOUT1 (out), 24 VCC7 (power), 25 CLKIN1 (in), 26 ~{CLKIN1} (in), 27 ~{SYNC} (in), 28 OSCIN (in), 29 ~{OSCIN} (in), 30 VCC8 (power), 31 VCC9 (power), 32 CPOUT2 (out), 33 VCC10 (power), 34 CLKIN0_LOS (out), 35 CLKIN1_LOS (out), 36 BIAS, 37 VCC11 (power), 38 CLKOUT1 (out), 39 ~{CLKOUT1} (out), 40 VCC12 (power), 41 CLKOUT2 (out), 42 ~{CLKOUT2} (out), 43 VCC13 (power), 44 CLKOUT3 (out), 45 ~{CLKOUT3} (out), 46 VCC14 (power), 47 CLKOUT4 (out), 48 ~{CLKOUT4} (out), 49 DAP (power)

## LMK04001BISQ/NOPB
designator U?
Low-Noise Clock Jitter Cleaner with Cascaded PLLs, 48-pin LLP, Pb-Free; PartNumber: LMK04001BISQ/NOPB; Manufacturer: National Semiconductor; PackageTopMarking: NS*UZXYTTE#*K04001BI; PowerWise: Y; CompType: Interface IC; Published: 1-Mar-2010; DatasheetVersion: Jul-2009; PackageVersion: revB, May-2009; PackageReference: SQA48A; Publisher: Altium Limited; PackageDescription: LLP, Plastic, Quad, 7 x 7 x 0.8mm Body, 48 Lead, 0.5mm Pitch, No Pullback; Supplier 1: Digi-Key; Supplier Part Number 1: LMK04001BISQ-ND; RoHS: Y; PinCount: 48; Code_JEDEC: MO-220-WKKD-2; ComponentLink1Description: LMK04001 Datasheet; ComponentLink1URL: http://www.national.com/ds/LM/LMK04001.pdf; ComponentLink2Description: LMK04001 Web Page; ComponentLink2URL: http://www.national.com/pf/LM/LMK04001.html; ComponentLink3Description: SQA48A Package Page; ComponentLink3URL: http://www.national.com/packaging/folders/sqa48a.html
footprint SQA48A (QFN, 48-Leads, Body 7x7mm, Pitch 0.5mm, NSC Recommended)
pins: 1 GND (power), 2 FOUT (out), 3 VCC1 (power), 4 CLKUWIRE (in), 5 DATAUWIRE (in), 6 LEUWIRE (in), 7 NC, 8 VCC2 (power), 9 LDOBYP1, 10 LDOBYP2, 11 GOE (in), 12 LD (out), 13 VCC3 (power), 14 CLKOUT0 (out), 15 ~{CLKOUT0} (out), 16 DLD_BYP (power), 17 GND (power), 18 VCC4 (power), 19 VCC5 (power), 20 CLKIN0 (in), 21 ~{CLKIN0} (in), 22 VCC6 (power), 23 CPOUT1 (out), 24 VCC7 (power), 25 CLKIN1 (in), 26 ~{CLKIN1} (in), 27 ~{SYNC} (in), 28 OSCIN (in), 29 ~{OSCIN} (in), 30 VCC8 (power), 31 VCC9 (power), 32 CPOUT2 (out), 33 VCC10 (power), 34 CLKIN0_LOS (out), 35 CLKIN1_LOS (out), 36 BIAS, 37 VCC11 (power), 38 CLKOUT1 (out), 39 ~{CLKOUT1} (out), 40 VCC12 (power), 41 CLKOUT2 (out), 42 ~{CLKOUT2} (out), 43 VCC13 (power), 44 CLKOUT3 (out), 45 ~{CLKOUT3} (out), 46 VCC14 (power), 47 CLKOUT4 (out), 48 ~{CLKOUT4} (out), 49 DAP (power)

## LMK04001BISQE/NOPB
designator U?
Low-Noise Clock Jitter Cleaner with Cascaded PLLs, 48-pin LLP, Pb-Free; PartNumber: LMK04001BISQE/NOPB; Manufacturer: National Semiconductor; PackageTopMarking: NS*UZXYTTE#*K04001BI; PowerWise: Y; CompType: Interface IC; Published: 1-Mar-2010; DatasheetVersion: Jul-2009; PackageVersion: revB, May-2009; PackageReference: SQA48A; Publisher: Altium Limited; PackageDescription: LLP, Plastic, Quad, 7 x 7 x 0.8mm Body, 48 Lead, 0.5mm Pitch, No Pullback; Supplier 1: Digi-Key; Supplier Part Number 1: LMK04001BISQETR-ND; Supplier 2: Digi-Key; Supplier Part Number 2: LMK04001BISQECT-ND; Supplier 3: Digi-Key; Supplier Part Number 3: LMK04001BISQEDKR-ND; Supplier 4: Farnell; Supplier Part Number 4: 1791115; RoHS: Y; PinCount: 48; Code_JEDEC: MO-220-WKKD-2; ComponentLink1Description: LMK04001 Datasheet; ComponentLink1URL: http://www.national.com/ds/LM/LMK04001.pdf; ComponentLink2Description: LMK04001 Web Page; ComponentLink2URL: http://www.national.com/pf/LM/LMK04001.html; ComponentLink3Description: SQA48A Package Page; ComponentLink3URL: http://www.national.com/packaging/folders/sqa48a.html
footprint SQA48A (QFN, 48-Leads, Body 7x7mm, Pitch 0.5mm, NSC Recommended)
pins: 1 GND (power), 2 FOUT (out), 3 VCC1 (power), 4 CLKUWIRE (in), 5 DATAUWIRE (in), 6 LEUWIRE (in), 7 NC, 8 VCC2 (power), 9 LDOBYP1, 10 LDOBYP2, 11 GOE (in), 12 LD (out), 13 VCC3 (power), 14 CLKOUT0 (out), 15 ~{CLKOUT0} (out), 16 DLD_BYP (power), 17 GND (power), 18 VCC4 (power), 19 VCC5 (power), 20 CLKIN0 (in), 21 ~{CLKIN0} (in), 22 VCC6 (power), 23 CPOUT1 (out), 24 VCC7 (power), 25 CLKIN1 (in), 26 ~{CLKIN1} (in), 27 ~{SYNC} (in), 28 OSCIN (in), 29 ~{OSCIN} (in), 30 VCC8 (power), 31 VCC9 (power), 32 CPOUT2 (out), 33 VCC10 (power), 34 CLKIN0_LOS (out), 35 CLKIN1_LOS (out), 36 BIAS, 37 VCC11 (power), 38 CLKOUT1 (out), 39 ~{CLKOUT1} (out), 40 VCC12 (power), 41 CLKOUT2 (out), 42 ~{CLKOUT2} (out), 43 VCC13 (power), 44 CLKOUT3 (out), 45 ~{CLKOUT3} (out), 46 VCC14 (power), 47 CLKOUT4 (out), 48 ~{CLKOUT4} (out), 49 DAP (power)

## LMK04001BISQX/NOPB
designator U?
Low-Noise Clock Jitter Cleaner with Cascaded PLLs, 48-pin LLP, Pb-Free; PartNumber: LMK04001BISQX/NOPB; Manufacturer: National Semiconductor; PackageTopMarking: NS*UZXYTTE#*K04001BI; PowerWise: Y; CompType: Interface IC; Published: 1-Mar-2010; DatasheetVersion: Jul-2009; PackageVersion: revB, May-2009; PackageReference: SQA48A; Publisher: Altium Limited; PackageDescription: LLP, Plastic, Quad, 7 x 7 x 0.8mm Body, 48 Lead, 0.5mm Pitch, No Pullback; Supplier 1: Digi-Key; Supplier Part Number 1: LMK04001BISQX-ND; RoHS: Y; PinCount: 48; Code_JEDEC: MO-220-WKKD-2; ComponentLink1Description: LMK04001 Datasheet; ComponentLink1URL: http://www.national.com/ds/LM/LMK04001.pdf; ComponentLink2Description: LMK04001 Web Page; ComponentLink2URL: http://www.national.com/pf/LM/LMK04001.html; ComponentLink3Description: SQA48A Package Page; ComponentLink3URL: http://www.national.com/packaging/folders/sqa48a.html
footprint SQA48A (QFN, 48-Leads, Body 7x7mm, Pitch 0.5mm, NSC Recommended)
pins: 1 GND (power), 2 FOUT (out), 3 VCC1 (power), 4 CLKUWIRE (in), 5 DATAUWIRE (in), 6 LEUWIRE (in), 7 NC, 8 VCC2 (power), 9 LDOBYP1, 10 LDOBYP2, 11 GOE (in), 12 LD (out), 13 VCC3 (power), 14 CLKOUT0 (out), 15 ~{CLKOUT0} (out), 16 DLD_BYP (power), 17 GND (power), 18 VCC4 (power), 19 VCC5 (power), 20 CLKIN0 (in), 21 ~{CLKIN0} (in), 22 VCC6 (power), 23 CPOUT1 (out), 24 VCC7 (power), 25 CLKIN1 (in), 26 ~{CLKIN1} (in), 27 ~{SYNC} (in), 28 OSCIN (in), 29 ~{OSCIN} (in), 30 VCC8 (power), 31 VCC9 (power), 32 CPOUT2 (out), 33 VCC10 (power), 34 CLKIN0_LOS (out), 35 CLKIN1_LOS (out), 36 BIAS, 37 VCC11 (power), 38 CLKOUT1 (out), 39 ~{CLKOUT1} (out), 40 VCC12 (power), 41 CLKOUT2 (out), 42 ~{CLKOUT2} (out), 43 VCC13 (power), 44 CLKOUT3 (out), 45 ~{CLKOUT3} (out), 46 VCC14 (power), 47 CLKOUT4 (out), 48 ~{CLKOUT4} (out), 49 DAP (power)

## LMK04002BISQ/NOPB
designator U?
Low-Noise Clock Jitter Cleaner with Cascaded PLLs, 48-pin LLP, Pb-Free; PartNumber: LMK04002BISQ/NOPB; Manufacturer: National Semiconductor; PackageTopMarking: NS*UZXYTTE#*K04002BI; PowerWise: Y; CompType: Interface IC; Published: 1-Mar-2010; DatasheetVersion: Jul-2009; PackageVersion: revB, May-2009; PackageReference: SQA48A; Publisher: Altium Limited; PackageDescription: LLP, Plastic, Quad, 7 x 7 x 0.8mm Body, 48 Lead, 0.5mm Pitch, No Pullback; Supplier 1: Digi-Key; Supplier Part Number 1: LMK04002BISQ-ND; RoHS: Y; PinCount: 48; Code_JEDEC: MO-220-WKKD-2; ComponentLink1Description: LMK04002 Datasheet; ComponentLink1URL: http://www.national.com/ds/LM/LMK04002.pdf; ComponentLink2Description: LMK04002 Web Page; ComponentLink2URL: http://www.national.com/pf/LM/LMK04002.html; ComponentLink3Description: SQA48A Package Page; ComponentLink3URL: http://www.national.com/packaging/folders/sqa48a.html
footprint SQA48A (QFN, 48-Leads, Body 7x7mm, Pitch 0.5mm, NSC Recommended)
pins: 1 GND (power), 2 FOUT (out), 3 VCC1 (power), 4 CLKUWIRE (in), 5 DATAUWIRE (in), 6 LEUWIRE (in), 7 NC, 8 VCC2 (power), 9 LDOBYP1, 10 LDOBYP2, 11 GOE (in), 12 LD (out), 13 VCC3 (power), 14 CLKOUT0 (out), 15 ~{CLKOUT0} (out), 16 DLD_BYP (power), 17 GND (power), 18 VCC4 (power), 19 VCC5 (power), 20 CLKIN0 (in), 21 ~{CLKIN0} (in), 22 VCC6 (power), 23 CPOUT1 (out), 24 VCC7 (power), 25 CLKIN1 (in), 26 ~{CLKIN1} (in), 27 ~{SYNC} (in), 28 OSCIN (in), 29 ~{OSCIN} (in), 30 VCC8 (power), 31 VCC9 (power), 32 CPOUT2 (out), 33 VCC10 (power), 34 CLKIN0_LOS (out), 35 CLKIN1_LOS (out), 36 BIAS, 37 VCC11 (power), 38 CLKOUT1 (out), 39 ~{CLKOUT1} (out), 40 VCC12 (power), 41 CLKOUT2 (out), 42 ~{CLKOUT2} (out), 43 VCC13 (power), 44 CLKOUT3 (out), 45 ~{CLKOUT3} (out), 46 VCC14 (power), 47 CLKOUT4 (out), 48 ~{CLKOUT4} (out), 49 DAP (power)

## LMK04002BISQE/NOPB
designator U?
Low-Noise Clock Jitter Cleaner with Cascaded PLLs, 48-pin LLP, Pb-Free; PartNumber: LMK04002BISQE/NOPB; Manufacturer: National Semiconductor; PackageTopMarking: NS*UZXYTTE#*K04002BI; PowerWise: Y; CompType: Interface IC; Published: 1-Mar-2010; DatasheetVersion: Jul-2009; PackageVersion: revB, May-2009; PackageReference: SQA48A; Publisher: Altium Limited; PackageDescription: LLP, Plastic, Quad, 7 x 7 x 0.8mm Body, 48 Lead, 0.5mm Pitch, No Pullback; Supplier 1: Digi-Key; Supplier Part Number 1: LMK04002BISQETR-ND; Supplier 2: Digi-Key; Supplier Part Number 2: LMK04002BISQECT-ND; Supplier 3: Digi-Key; Supplier Part Number 3: LMK04002BISQEDKR-ND; Supplier 4: Farnell; Supplier Part Number 4: 1791116; RoHS: Y; PinCount: 48; Code_JEDEC: MO-220-WKKD-2; ComponentLink1Description: LMK04002 Datasheet; ComponentLink1URL: http://www.national.com/ds/LM/LMK04002.pdf; ComponentLink2Description: LMK04002 Web Page; ComponentLink2URL: http://www.national.com/pf/LM/LMK04002.html; ComponentLink3Description: SQA48A Package Page; ComponentLink3URL: http://www.national.com/packaging/folders/sqa48a.html
footprint SQA48A (QFN, 48-Leads, Body 7x7mm, Pitch 0.5mm, NSC Recommended)
pins: 1 GND (power), 2 FOUT (out), 3 VCC1 (power), 4 CLKUWIRE (in), 5 DATAUWIRE (in), 6 LEUWIRE (in), 7 NC, 8 VCC2 (power), 9 LDOBYP1, 10 LDOBYP2, 11 GOE (in), 12 LD (out), 13 VCC3 (power), 14 CLKOUT0 (out), 15 ~{CLKOUT0} (out), 16 DLD_BYP (power), 17 GND (power), 18 VCC4 (power), 19 VCC5 (power), 20 CLKIN0 (in), 21 ~{CLKIN0} (in), 22 VCC6 (power), 23 CPOUT1 (out), 24 VCC7 (power), 25 CLKIN1 (in), 26 ~{CLKIN1} (in), 27 ~{SYNC} (in), 28 OSCIN (in), 29 ~{OSCIN} (in), 30 VCC8 (power), 31 VCC9 (power), 32 CPOUT2 (out), 33 VCC10 (power), 34 CLKIN0_LOS (out), 35 CLKIN1_LOS (out), 36 BIAS, 37 VCC11 (power), 38 CLKOUT1 (out), 39 ~{CLKOUT1} (out), 40 VCC12 (power), 41 CLKOUT2 (out), 42 ~{CLKOUT2} (out), 43 VCC13 (power), 44 CLKOUT3 (out), 45 ~{CLKOUT3} (out), 46 VCC14 (power), 47 CLKOUT4 (out), 48 ~{CLKOUT4} (out), 49 DAP (power)

## LMK04002BISQX/NOPB
designator U?
Low-Noise Clock Jitter Cleaner with Cascaded PLLs, 48-pin LLP, Pb-Free; PartNumber: LMK04002BISQX/NOPB; Manufacturer: National Semiconductor; PackageTopMarking: NS*UZXYTTE#*K04002BI; PowerWise: Y; CompType: Interface IC; Published: 1-Mar-2010; DatasheetVersion: Jul-2009; PackageVersion: revB, May-2009; PackageReference: SQA48A; Publisher: Altium Limited; PackageDescription: LLP, Plastic, Quad, 7 x 7 x 0.8mm Body, 48 Lead, 0.5mm Pitch, No Pullback; Supplier 1: Digi-Key; Supplier Part Number 1: LMK04002BISQX-ND; RoHS: Y; PinCount: 48; Code_JEDEC: MO-220-WKKD-2; ComponentLink1Description: LMK04002 Datasheet; ComponentLink1URL: http://www.national.com/ds/LM/LMK04002.pdf; ComponentLink2Description: LMK04002 Web Page; ComponentLink2URL: http://www.national.com/pf/LM/LMK04002.html; ComponentLink3Description: SQA48A Package Page; ComponentLink3URL: http://www.national.com/packaging/folders/sqa48a.html
footprint SQA48A (QFN, 48-Leads, Body 7x7mm, Pitch 0.5mm, NSC Recommended)
pins: 1 GND (power), 2 FOUT (out), 3 VCC1 (power), 4 CLKUWIRE (in), 5 DATAUWIRE (in), 6 LEUWIRE (in), 7 NC, 8 VCC2 (power), 9 LDOBYP1, 10 LDOBYP2, 11 GOE (in), 12 LD (out), 13 VCC3 (power), 14 CLKOUT0 (out), 15 ~{CLKOUT0} (out), 16 DLD_BYP (power), 17 GND (power), 18 VCC4 (power), 19 VCC5 (power), 20 CLKIN0 (in), 21 ~{CLKIN0} (in), 22 VCC6 (power), 23 CPOUT1 (out), 24 VCC7 (power), 25 CLKIN1 (in), 26 ~{CLKIN1} (in), 27 ~{SYNC} (in), 28 OSCIN (in), 29 ~{OSCIN} (in), 30 VCC8 (power), 31 VCC9 (power), 32 CPOUT2 (out), 33 VCC10 (power), 34 CLKIN0_LOS (out), 35 CLKIN1_LOS (out), 36 BIAS, 37 VCC11 (power), 38 CLKOUT1 (out), 39 ~{CLKOUT1} (out), 40 VCC12 (power), 41 CLKOUT2 (out), 42 ~{CLKOUT2} (out), 43 VCC13 (power), 44 CLKOUT3 (out), 45 ~{CLKOUT3} (out), 46 VCC14 (power), 47 CLKOUT4 (out), 48 ~{CLKOUT4} (out), 49 DAP (power)